# Altium integrated library SFC-110-T1-F-D.IntLib: 1 symbol
Pins are listed as number, name and electrical type; pins without a type are passive.

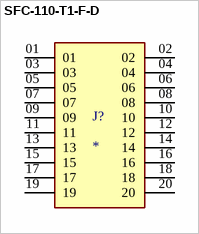
[diagram p0: symbol SFC-110-T1-F-D]

## SFC-110-T1-F-D
designator J?
MP: SFC-110-T1-F-D; Price: None; Package: None; Availability: Unavailable; Value: *
footprint SAMTEC_SFC-110-T1-F-D
pins: 01, 02, 03, 04, 05, 06, 07, 08, 09, 10, 11, 12, 13, 14, 15, 16, 17, 18, 19, 20